# EAGLE library part MOUDLE-BLUETOOTH-HC-05(34P-27X13MM) (library Seeed-OPL-Moudle)
317030002
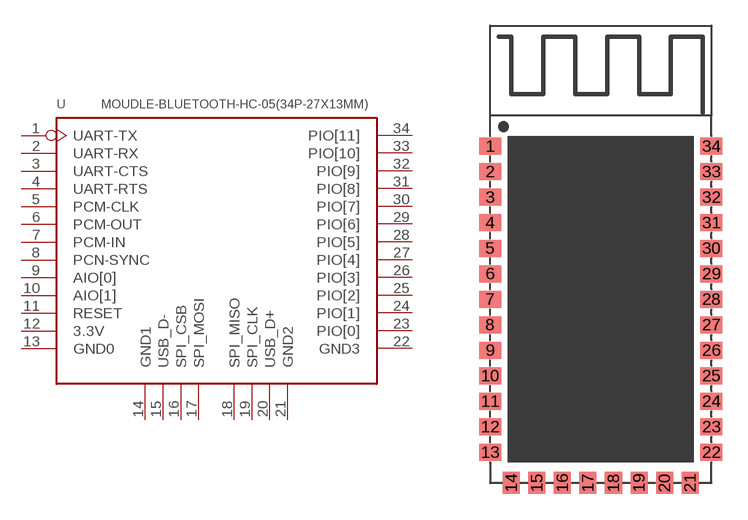
[diagram p9: symbol with the pads of BT34P-SMD-1.5-26.9X13.0X2.2MM; footprint BT34P-SMD-1.5-26.9X13.0X2.2MM]

Designator prefix U

## MOUDLE-BLUETOOTH-HC-05(34P-27X13MM) (MPN: HC-05; VALUE: 34P 27X13MM)  [BT34P-SMD-1.5-26.9X13.0X2.2MM]
1  UART-TX
2  UART-RX
3  UART-CTS
4  UART-RTS
5  PCM-CLK
6  PCM-OUT
7  PCM-IN
8  PCN-SYNC
9  AIO[0]
10  AIO[1]
11  RESET
12  3.3V
13  GND0
14  GND1
15  USB_D-
16  SPI_CSB
17  SPI_MOSI
18  SPI_MISO
19  SPI_CLK
20  USB_D+
21  GND2
22  GND3
23  PIO[0]
24  PIO[1]
25  PIO[2]
26  PIO[3]
27  PIO[4]
28  PIO[5]
29  PIO[6]
30  PIO[7]
31  PIO[8]
32  PIO[9]
33  PIO[10]
34  PIO[11]

## Footprint BT34P-SMD-1.5-26.9X13.0X2.2MM (pad centres in mm)
smd 1.3 x 1: 1 -6.5,19.8; 2 -6.5,18.3; 3 -6.5,16.8; 4 -6.5,15.3; 5 -6.5,13.8; 6 -6.5,12.3; 7 -6.5,10.8; 8 -6.5,9.3; 9 -6.5,7.8; 10 -6.5,6.3; 11 -6.5,4.8; 12 -6.5,3.3; 13 -6.5,1.8; 22 6.5,1.8; 23 6.5,3.3; 24 6.5,4.8; 25 6.5,6.3; 26 6.5,7.8; 27 6.5,9.3; 28 6.5,10.8; 29 6.5,12.3; 30 6.5,13.8; 31 6.5,15.3; 32 6.5,16.8; 33 6.5,18.3; 34 6.5,19.8
smd 1 x 1.3: 14 -5.25,0; 15 -3.75,0; 16 -2.25,0; 17 -0.75,0; 18 0.75,0; 19 2.25,0; 20 3.75,0; 21 5.25,0